# EAGLE library part 10118241-001RLF (library 10118241-001RLF)
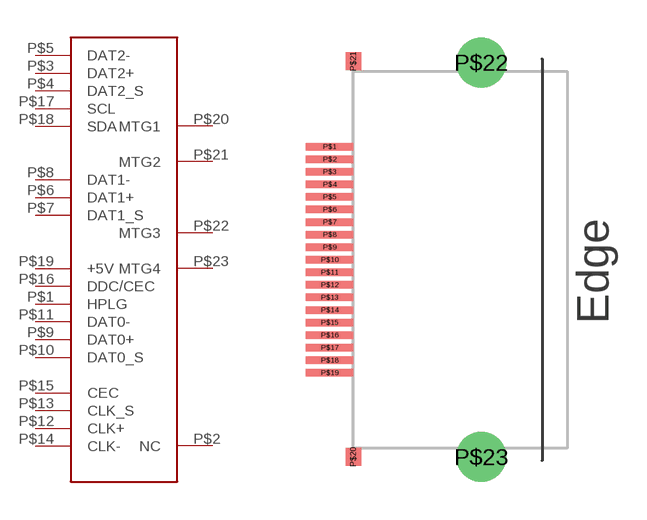
[diagram p0: symbol with the pads of 10118241-001RLF; footprint 10118241-001RLF]

Designator prefix -

## 10118241-001RLF  [10118241-001RLF]
P$1  HPLG
P$2  NC
P$3  DAT2+
P$4  DAT2_S
P$5  DAT2-
P$6  DAT1+
P$7  DAT1_S
P$8  DAT1-
P$9  DAT0+
P$10  DAT0_S
P$11  DAT0-
P$12  CLK+
P$13  CLK_S
P$14  CLK-
P$15  CEC
P$16  DDC/CEC
P$17  SCL
P$18  SDA
P$19  +5V
P$20  MTG1
P$21  MTG2
P$22  MTG3
P$23  MTG4

## Footprint 10118241-001RLF (pad centres in mm)
smd 1.9 x 0.3: P$1 -14.92,5.77; P$2 -14.92,5.27; P$3 -14.92,4.77; P$4 -14.92,4.27; P$5 -14.92,3.77; P$6 -14.92,3.27; P$7 -14.92,2.77; P$8 -14.92,2.27; P$9 -14.92,1.77; P$10 -14.92,1.27; P$11 -14.92,0.77; P$12 -14.92,0.27; P$13 -14.92,-0.23; P$14 -14.92,-0.73; P$15 -14.92,-1.23; P$16 -14.92,-1.73; P$17 -14.92,-2.23; P$18 -14.92,-2.73; P$19 -14.92,-3.23
smd 0.635 x 0.711: P$20 -13.97,-6.579; P$21 -13.97,9.169
drill 1.321: P$22 -8.89,9.119; P$23 -8.89,-6.579